# EAGLE library part 418127160909 (library Switches_rev16a)
WS-DITV THT version flat actuator with top tape sealed Specification Contact Rating Switching :25mA, 24VDC Non-Switching : 100mA, 50VDC Contact Resistance Initial: 50mΩ max. After life test: 100mΩ max. Insulation Resistance: min.100MΩ at 500VDC Dielectric Strength : 500VAC for 1 minute Operation Force :600g max. Mechanical Life : 2000 cycles Electrical Life : 2000 cycles / 25mA, 24VDC Raise Actuator type Material Cover : : PA9T UL 94 V-0, color Black Base :PA9T UL 94 V-0, color Black. Actuator :PA46 UL 94 V-0, color White Contact : : Gold Plated Terminal : Gold Plated <http://katalog.we-online.de/media/images/v2/Family_WS_IC_4181271609xx_pf2.jpg> Details see: http://katalog.we-online.de/en/em/DITV_2_54_SMALL_COMPACT_THT_FLAT_ACTUATOR/S/4181271609?sid=338a3ff20b 2015 (C) Würth Elektronik
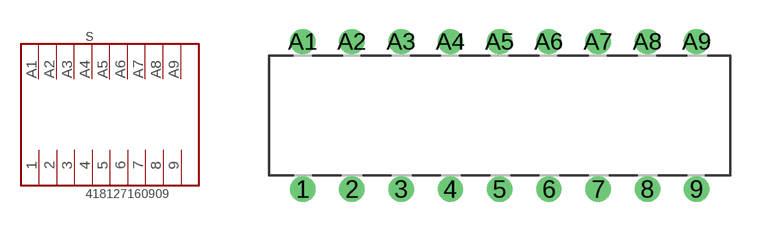
[diagram p159: symbol with the pads of 418127160909; footprint 418127160909]

Designator prefix S

## 418127160909  [418127160909]
1  1  pas
2  2  pas
3  3  pas
4  4  pas
5  5  pas
6  6  pas
7  7  pas
8  8  pas
9  9  pas
A1  A1  pas
A2  A2  pas
A3  A3  pas
A4  A4  pas
A5  A5  pas
A6  A6  pas
A7  A7  pas
A8  A8  pas
A9  A9  pas

## Footprint 418127160909 (pad centres in mm)
WS-DITV THT version flat actuator with top tape sealed 418127160909
drill 0.8: 1 -10.16,-3.81; 2 -7.62,-3.81; 3 -5.08,-3.81; 4 -2.54,-3.81; 5 0,-3.81; 6 2.54,-3.81; 7 5.08,-3.81; 8 7.62,-3.81; 9 10.16,-3.81; A1 -10.16,3.81; A2 -7.62,3.81; A3 -5.08,3.81; A4 -2.54,3.81; A5 0,3.81; A6 2.54,3.81; A7 5.08,3.81; A8 7.62,3.81; A9 10.16,3.81